# Altium footprint library SUMIDA_CDRH127.PcbLib: 1 footprints
Each footprint in its own frame and in the unit in brackets; x right, y up, seen from the top. Pads: shape width x height; smd on the part's side, far side on the other; paste and mask are expansions set on the pad; w line width, h text height; cw(c..) or ccw(c..) is an arc to the next point about the centre after c.
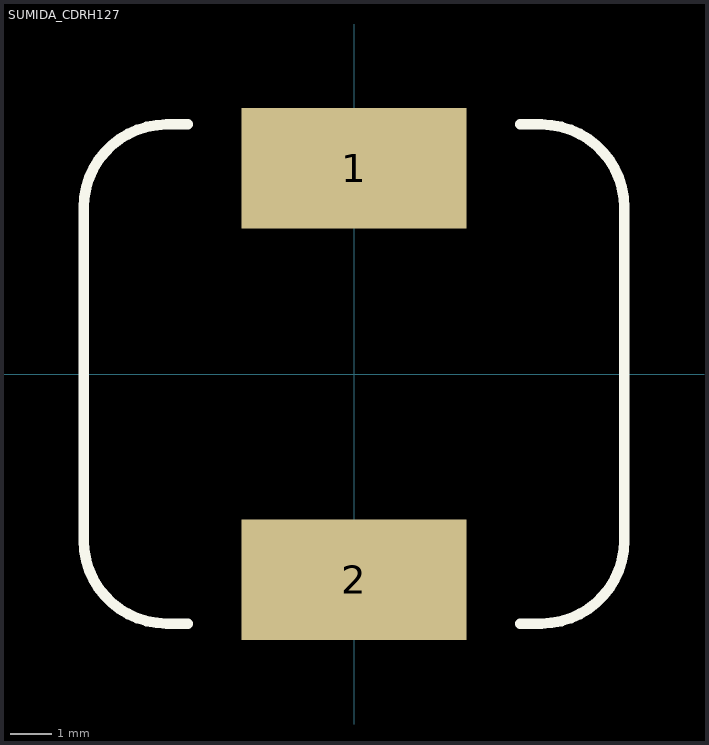
[diagram p0: the footprint, top view; thin cyan lines are the x and y axes]

## SUMIDA_CDRH127 [mm] "Sumida CDRH127"
pads (2):
  rect 5.4x2.9 smd: 1(0,4.95) 2(0,-4.95)
Top Overlay:
  lines w0.254: -4.5,6 ccw(c-4.5,4) -6.5,4 -6.5,-4 ccw(c-4.5,-4) -4.5,-6 -4,-6 ; -4.5,6 -4,6 ; 4,-6 4.5,-6 ccw(c4.5,-4) 6.5,-4 6.5,4 ccw(c4.5,4) 4.5,6 ; 4,6 4.5,6
3D body: height 8, standoff 0, extent -6.5,-6 6.5,6